# EAGLE library part GEC08DABN-M30 (library con-sullins)
HEADER - Vertical
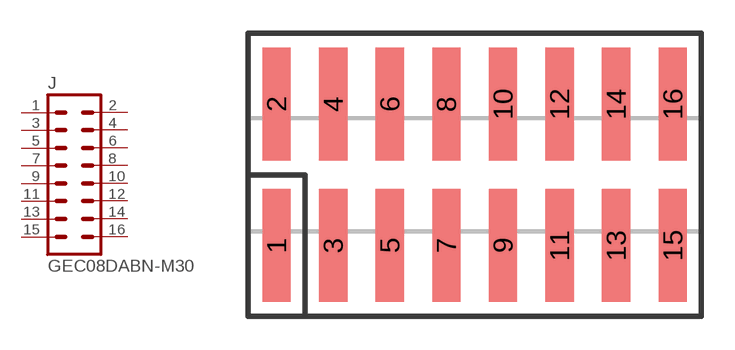
[diagram p5: symbol with the pads of GXC08; footprint GXC08]

Designator prefix J

## GEC08DABN-M30  [GXC08]
1  1  pas
2  2  pas
3  3  pas
4  4  pas
5  5  pas
6  6  pas
7  7  pas
8  8  pas
9  9  pas
10  10  pas
11  11  pas
12  12  pas
13  13  pas
14  14  pas
15  15  pas
16  16  pas

## Footprint GXC08 (pad centres in mm)
SMD HEADER - 0.1", Vertical
smd 1.27 x 5.08: 1 -8.89,-3.175; 2 -8.89,3.175; 3 -6.35,-3.175; 4 -6.35,3.175; 5 -3.81,-3.175; 6 -3.81,3.175; 7 -1.27,-3.175; 8 -1.27,3.175; 9 1.27,-3.175; 10 1.27,3.175; 11 3.81,-3.175; 12 3.81,3.175; 13 6.35,-3.175; 14 6.35,3.175; 15 8.89,-3.175; 16 8.89,3.175